# Altium footprint library Molex_2005290050.PcbLib: 1 footprints
Each footprint in its own frame and in the unit in brackets; x right, y up, seen from the top. Pads: shape width x height; smd on the part's side, far side on the other; paste and mask are expansions set on the pad; w line width, h text height; cw(c..) or ccw(c..) is an arc to the next point about the centre after c.
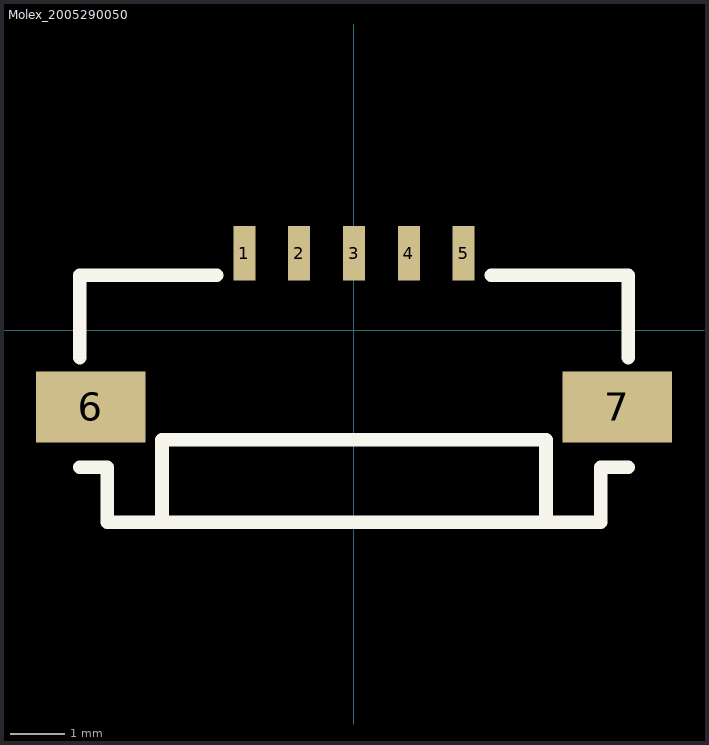
[diagram p0: the footprint, top view; thin cyan lines are the x and y axes]

## Molex_2005290050 [mm]
pads (7):
  rect 0.4x1 smd: 1(-2,1.4) 2(-1,1.4) 3(0,1.4) 4(1,1.4) 5(2,1.4)
  rect 2x1.3 smd: 6(-4.8,-1.4) 7(4.8,-1.4)
Top Overlay:
  lines w0.25: -5,-2.5 -4.5,-2.5 -4.5,-3.5 4.5,-3.5 4.5,-2.5 5,-2.5 ; -5,-0.5 -5,1 -2.5,1 ; -3.5,-3.5 -3.5,-2 3.5,-2 3.5,-3.5 ; 2.5,1 5,1 5,-0.5
3D body "2005290050.stp": height 1.88, standoff -0.08, extent -5.5,-3.85 5.5,1.45